# EAGLE library part TPS2421 (library everykey)
TI current limiter IC, 3-18V, 5A max, either latch-off (TPS2421-1) or auto-retry (TPS2421-2).
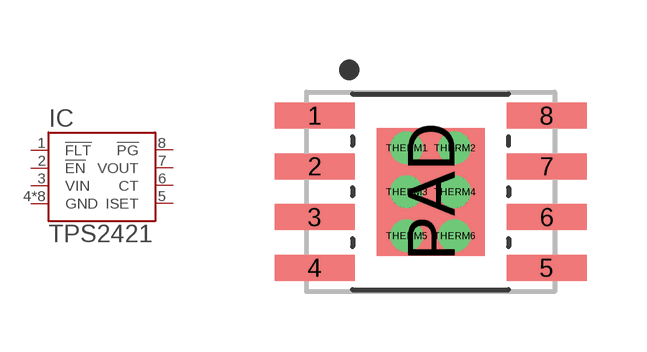
[diagram p61: symbol with the pads of SOIC8-150MIL-EP-VIAS; footprint SOIC8-150MIL-EP-VIAS]

Designator prefix IC

## TPS2421POWERPAD-SO8  [SOIC8-150MIL-EP-VIAS]
1  !FLT  oc
2  !EN  in
3  VIN  pwr
4  GND  pwr
5  ISET
6  CT
7  VOUT  pwr
8  !PG  oc
PAD  GND  pwr
THERM1  GND  pwr
THERM2  GND  pwr
THERM3  GND  pwr
THERM4  GND  pwr
THERM5  GND  pwr
THERM6  GND  pwr

## Footprint SOIC8-150MIL-EP-VIAS (pad centres in mm)
SOIC8 package with exposed thermal pad, 3.2 x 2.7mm and vias inside.
smd 2 x 0.65: 1 -2.9,1.905; 2 -2.9,0.635; 3 -2.9,-0.635; 4 -2.9,-1.905; 5 2.9,-1.905; 6 2.9,-0.635; 7 2.9,0.635; 8 2.9,1.905
smd 2.7 x 3.2: PAD 0,0
drill 0.3: THERM1 -0.6,1.1; THERM2 0.6,1.1; THERM3 -0.6,0; THERM4 0.6,0; THERM5 -0.6,-1.1; THERM6 0.6,-1.1